# Altium schematic symbol library Capacitors.SchLib: 5 symbols
Pins are listed as number, name and electrical type; pins without a type are passive.

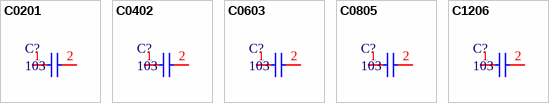
[diagram p0: symbols C0201 to C1206]

## C0201
designator C?, comment 103
footprint C0201
pins: 1, 2

## C0402
designator C?, comment 103
footprint C0402
pins: 1, 2

## C0603
designator C?, comment 103
footprint C0603
pins: 1, 2

## C0805
designator C?, comment 103
footprint C0805
pins: 1, 2

## C1206
designator C?, comment 103
footprint C1206
pins: 1, 2